# EAGLE library part 1X06 (library connectors)
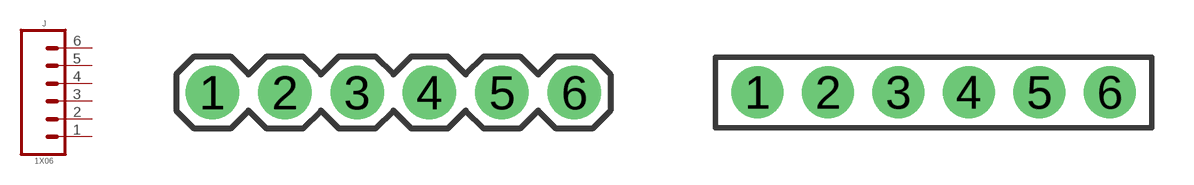
[diagram p1: symbol with the pads of 1X06-VERT-MALE; footprints 1X06-VERT-MALE, 1X06-VERT-FEMALE]

Designator prefix J

## 1X06VERT-MALE (CREATOR: MrSwirlyEyes; DATASHEET: http://www.sullinscorp.com/catalogs/77_PAGE108-109_.100_MALE_HDR.pdf; DIST: Digikey; DISTLINK: https://www.digikey.com/products/en?keywords=S1012E-06-ND; DISTPN: S1012E-06-ND; MFR: Sullins Connector Solutions; MPN: PEC06SAAN; TESTED: NO; VALUE: 1x06-VERT-MALE)  [1X06-VERT-MALE]
1  1  pas
2  2  pas
3  3  pas
4  4  pas
5  5  pas
6  6  pas

## 1X06VERT-FEMALE (CREATOR: MrSwirlyEyes; DATASHEET: http://sullinscorp.com/catalogs/101_PAGE114-115_.100_FEMALE_HDR.pdf; DIST: Digikey; DISTLINK: https://www.digikey.com/products/en?keywords=PPTC061LFBN-RC; DISTPN: S7004-ND; MFR: Sullins Connector Solutions; MPN: PPTC061LFBN-RC; TESTED: NO; VALUE: 1x06-VERT-FEMALE)  [1X06-VERT-FEMALE]
Pads as for 1X06-VERT-MALE

## Footprint 1X06-VERT-MALE (pad centres in mm)
drill 1.016 pad 1.88: 1 -6.35,0; 2 -3.81,0; 3 -1.27,0; 4 1.27,0; 5 3.81,0; 6 6.35,0

## Footprint 1X06-VERT-FEMALE (pad centres in mm)
drill 1.016 pad 1.88: 1 -6.35,0; 2 -3.81,0; 3 -1.27,0; 4 1.27,0; 5 3.81,0; 6 6.35,0